# Altium footprint library PCB_Library.PcbLib: 15 footprints
Each footprint in its own frame and in the unit in brackets; x right, y up, seen from the top. Pads: shape width x height; smd on the part's side, far side on the other; paste and mask are expansions set on the pad; w line width, h text height; cw(c..) or ccw(c..) is an arc to the next point about the centre after c.
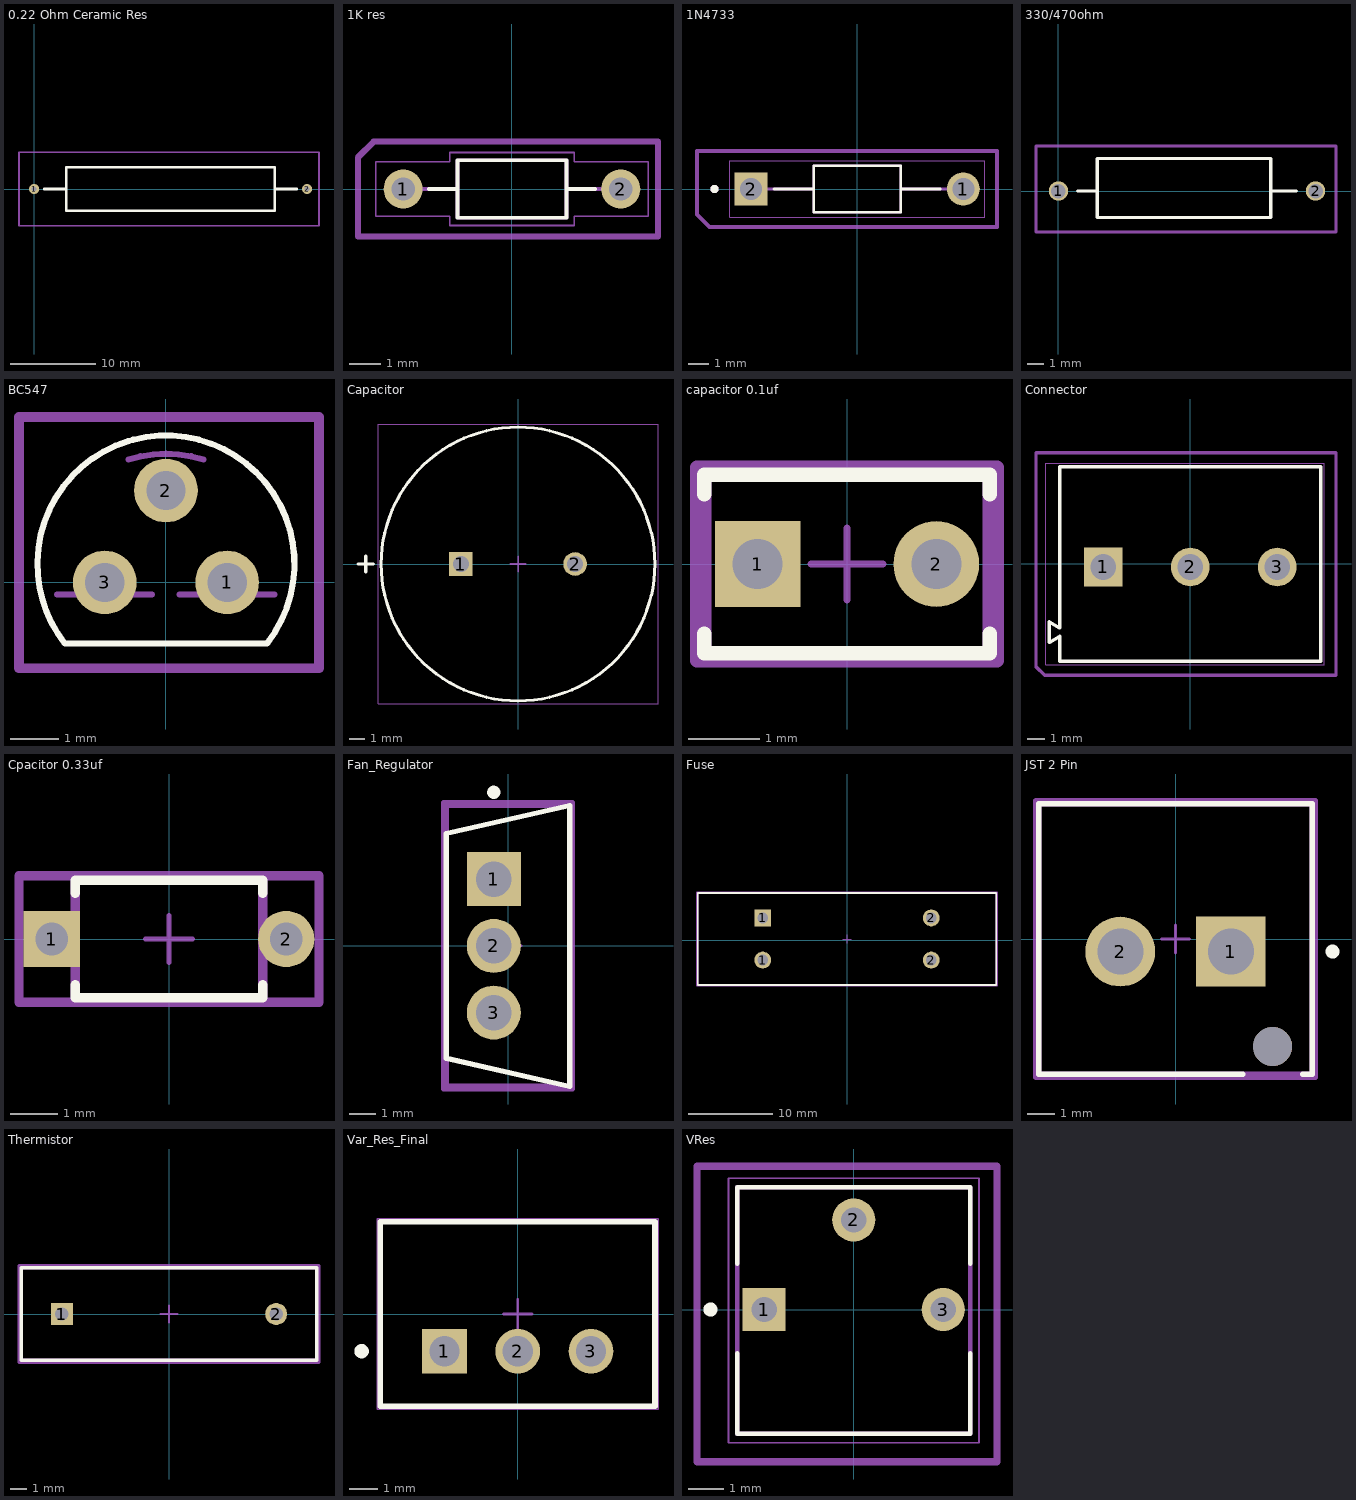
[diagram p0: the footprints below, top view; thin cyan lines are the x and y axes]

## 0.22 Ohm Ceramic Res [mm]
pads (2):
  round 1.2 hole 0.6: 1(0,0) 2(32,0)
Top Overlay:
  lines w0.3: 3.775,-2.54 28.225,-2.54 ; 3.775,-2.54 3.775,0 ; 3.775,-2.54 28.225,-2.54 ; 3.775,-2.54 3.775,0 ; 3.775,0 3.775,2.54 ; 3.775,0 1.2,0 3.775,0 ; 3.775,0 3.775,2.54 ; 3.775,2.54 28.225,2.54 ; 3.775,2.54 28.225,2.54 ; 28.225,-2.54 28.225,2.54 ; 28.225,-2.54 28.225,2.54 ; 28.225,0 30.8,0 28.225,0
Top Assembly:
  lines w0.2: -1.778,-4.318 -1.778,4.318 33.401,4.318 33.401,-4.318 -1.778,-4.318
  text "'.Designator'" at 25.88,5.296 h0.7

## 1K res [mm]
pads (2):
  round 1.258 hole 0.75: 1(-3.5,0) 2(3.5,0)
Top Overlay:
  lines w0.127: -2.667,0 -1.75,0 ; 2.667,0 1.75,0 ; -1.75,0 -1.75,0.925 1.17,0.925 1.75,0.925 1.75,0 ; -1.75,0 -1.75,-0.925 1.17,-0.925 1.75,-0.925 1.75,0
Top Assembly:
  lines w0.2: -4.953,-1.524 4.699,-1.524 4.699,1.524 -4.445,1.524 -4.953,1.016 -4.953,-1.524
  text "'.Designator'" at -3.202,2.111 h0.7
Mechanical 13:
  lines w0.127: -2.925,0 -1.75,0 ; 2.925,0 1.75,0 ; -1.75,0 -1.75,-0.925 1.75,-0.925 1.75,0 ; -1.75,0 -1.75,0.925 1.75,0.925 1.75,0
Mechanical 15:
  lines w0.05: -4.38,-0.88 -2,-0.88 -2,-1.175 2,-1.175 2,-0.88 4.38,-0.88 4.38,0.88 2,0.88 2,1.175 -2,1.175 -2,0.88 -4.38,0.88 -4.38,-0.88

## 1N4733 [mm]
pads (2):
  round 1.65 hole 1.1: 1(5.3,0)
  rect 1.65x1.65 hole 1.1: 2(-5.3,0)
Top Overlay:
  circle w0.2: c-7.125,0 r0.1
  lines w0.127: -4.155,0 -2.175,0 ; 4.155,0 2.175,0 ; -2.175,0 -2.175,1.15 2.175,1.15 2.175,0 ; -2.175,0 -2.175,-1.15 2.175,-1.15 2.175,0
Top Assembly:
  lines w0.2: -8.001,-1.27 -7.366,-1.905 6.985,-1.905 6.985,1.905 -8.001,1.905 -8.001,-1.27
  text "'.Designator'" at 0.734,2.629 h0.7
Mechanical 4:
  circle w0.2: c-7.125,0 r0.1
  circle w0.2: c-7.125,0 r0.1
  lines w0.127: -2.175,-1.15 -2.175,0 ; -2.175,-1.15 2.175,-1.15 ; -2.175,-1.15 -2.175,0 ; -2.175,-1.15 2.175,-1.15 ; -2.175,0 -2.175,1.15 ; -2.175,0 -5.3,0 -2.175,0 ; -2.175,0 -2.175,1.15 ; -2.175,1.15 2.175,1.15 ; -2.175,1.15 2.175,1.15 ; 2.175,-1.15 2.175,0 ; 2.175,-1.15 2.175,0 ; 2.175,0 2.175,1.15 ; 2.175,0 5.3,0 2.175,0 ; 2.175,0 2.175,1.15
Mechanical 16:
  lines w0.05: -6.375,-1.4 -6.375,1.4 6.375,1.4 6.375,-1.4 -6.375,-1.4

## 330/470ohm [mm]
pads (2):
  round 1.2 hole 0.9: 1(0,0) 2(16,0)
Top Overlay:
  lines w0.2: 1.2,0 2.413,0 ; 13.208,0 14.8,0 ; 2.413,0 2.413,2.032 13.208,2.032 13.208,-1.651 2.413,-1.651 2.413,0
Top Assembly:
  lines w0.2: -1.397,-2.54 17.272,-2.54 17.272,2.794 -1.397,2.794 -1.397,-2.54
  text "'.Designator'" at 3.655,3.772 h0.7

## BC547 [mil]
pads (3):
  round 52 hole 32: 1(50,0) 2(0,75) 3(-50,0)
Top Overlay:
  lines w5: -82.74,-49.65 cw(c0,15) -104.6,5.85 cw(c0,15) -30.7,115.41 ; -82.46,-50 82.46,-50 ; -37.38,113.12 cw(c0,15) 82.74,-49.64
Top Assembly:
  lines w7.87: -120,-70 125,-70 125,135 -120,135 -120,-70
  text "'.Designator'" at -141.12,158.52 h27.56
Mechanical 13:
  lines w5: -88.73,-10 -11.27,-10 ; -30.7,100.41 cw(c0,0) 30.7,100.41 ; 11.27,-10 88.73,-10
  text "2" at -25.04,25.04 h50.07
  text "3" at -85.02,0 h50.01
  text "1" at 45.04,0 h50.04

## Capacitor [mm]
pads (2):
  rect 1.55x1.55 hole 1.05: 1(-3.75,0)
  round 1.55 hole 1.05: 2(3.75,0)
Top Overlay:
  circle w0.2: c0,0 r9
  lines w0.2: -10.516,0 -9.5,0 ; -10.008,-0.508 -10.008,-0.254 -10.008,0.254 -10.008,0.508
Mechanical 13:
  circle w0.1: c0,0 r9
Mechanical 15:
  lines w0.05: -9.2,-9.2 9.2,-9.2 9.2,9.2 -9.2,9.2 -9.2,-9.2
  lines w0.1: -0.5,0 0.5,0 ; 0,-0.5 0,0.5
3D body "RBCN-35PX6800MEFC18X35.5.stp": height 37.51, standoff -4, extent -9,-9 9.01,9

## capacitor 0.1uf [mm]
pads (2):
  rect 1.2x1.2 hole 0.7 paste-1000 mask+0: 1(-1.25,0)
  round 1.2 hole 0.7 paste-1000 mask+0: 2(1.25,0)
Top Overlay:
  lines w0.2: -2,-0.975 -2,-1.25 2,-1.25 2,-0.975 ; -2,0.975 -2,1.25 2,1.25 2,0.975
Top Assembly:
  lines w0.2: -2.1,-1.35 2.1,-1.35 2.1,1.35 -2.1,1.35 -2.1,-1.35 ; -2,-1.25 2,-1.25 2,1.25 -2,1.25 -2,-1.25
  text ".Designator" at 0.254,1.712 h1
Top Component Center:
  lines w0.1: -0.5,0 0.5,0 ; 0,-0.5 0,0.5
Top Courtyard:
  lines w0.2: -2.1,-1.35 2.1,-1.35 2.1,1.35 -2.1,1.35 -2.1,-1.35
3D body "Cap_Murata_RCER71E684K1DBH03A_eec.STEP": height 0.25, standoff 0, extent -2.1,-1.35 2.1,1.35

## Connector [mm]
pads (3):
  rect 2.25x2.25 hole 1.5: 1(-5.08,-0.175)
  round 2.25 hole 1.5: 2(0,-0.175) 3(5.08,-0.175)
Top Overlay:
  lines w0.2: -7.621,-4.223 -8.22,-4.575 -8.22,-3.375 -7.621,-3.727 ; -7.62,-4.225 -7.62,-5.675 7.62,-5.675 7.62,5.675 -7.62,5.675 -7.62,-3.726
Top Assembly:
  lines w0.2: -9,-6 -9,6.5 8.5,6.5 8.5,-5.5 8.5,-6.5 -8.5,-6.5 -9,-6
  text "'.Designator'" at -0.9,7.333 h0.7
Mechanical 13:
  lines w0.1: -7.621,-4.223 -8.22,-4.575 -8.22,-3.375 -7.621,-3.727 ; -7.62,-4.225 -7.62,-5.675 7.62,-5.675 7.62,5.675 -7.62,5.675 -7.62,-3.726
Mechanical 15:
  lines w0.05: -0.5,0 0.5,0 ; 0,-0.5 0,0.5 ; -8.42,-5.875 7.82,-5.875 7.82,5.875 -8.42,5.875 -8.42,-5.875
3D body "691236510003.stp": height 18.1, standoff -3.9, extent -8.22,-5.675 7.62,5.675

## Cpacitor 0.33uf [mm]
pads (2):
  rect 1.2x1.2 hole 0.7 paste-1000 mask+0: 1(-2.5,0)
  round 1.2 hole 0.7 paste-1000 mask+0: 2(2.5,0)
Top Overlay:
  lines w0.2: -2,-0.975 -2,-1.25 2,-1.25 2,-0.975 ; -2,0.975 -2,1.25 2,1.25 2,0.975
Top Assembly:
  lines w0.2: -3.2,-1.35 -3.2,1.35 3.2,1.35 3.2,-1.35 -3.2,-1.35 ; -2,-1.25 -2,1.25 2,1.25 2,-1.25 -2,-1.25
  text ".Designator" at 0.127,1.839 h1
Top Component Center:
  lines w0.1: -0.5,0 0.5,0 ; 0,-0.5 0,0.5
Top Courtyard:
  lines w0.2: -3.2,-1.35 -3.2,1.35 3.2,1.35 3.2,-1.35 -3.2,-1.35
3D body "Cap_Murata_RCER71E474K1K1H03B_eec.STEP": height 0.25, standoff 0, extent -3.2,-1.35 3.2,1.35

## Fan_Regulator [mm]
pads (3):
  rect 2.05x2.05 hole 1.35 paste-1000 mask+0: 1(-0.54,2.535)
  round 2.05 hole 1.35 paste-1000 mask+0: 2(-0.54,0) 3(-0.54,-2.535)
Top Overlay:
  circle w0.25: c-0.54,5.835 r0.125
  lines w0.2: 2.35,-5.335 -2.35,-4.268 -2.35,4.268 2.35,5.335 ; 2.35,-5.285 2.35,5.285
Top Assembly:
  lines w0.2: -2.45,-5.435 2.45,-5.435 2.45,5.435 -2.45,5.435 -2.45,-5.435 ; -2.35,-5.335 2.35,-5.335 2.35,5.335 -2.35,5.335 -2.35,-5.335
  text ".Designator" at 0,-0.001 h1
Top Component Center:
  lines w0.1: -0.5,0 0.5,0 ; 0,-0.5 0,0.5
Top Courtyard:
  lines w0.2: -2.45,-5.435 2.45,-5.435 2.45,5.435 -2.45,5.435 -2.45,-5.435
3D body "IC_ON_Semiconductor_LM7812CT_eec.STEP": height 0.25, standoff 0, extent -2.45,-5.435 2.45,5.435

## Fuse [mm]
pads (4):
  round 2 hole 1.3 paste-1000 mask+0: 1(-10,-2.373) 2(10,-2.373) 2(10,2.627)
  rect 2x2 hole 1.3 paste-1000 mask+0: 1(-10,2.627)
Top Overlay:
  lines w0.2: -17.7,-5.323 17.7,-5.323 17.7,5.577 -17.7,5.577 -17.7,-5.323
Top Assembly:
  lines w0.2: -17.8,-5.423 17.8,-5.423 17.8,5.677 -17.8,5.677 -17.8,-5.423 ; -17.7,-5.323 17.7,-5.323 17.7,5.577 -17.7,5.577 -17.7,-5.323
  text ".Designator" at 0.254,7.554 h1
Top Component Center:
  lines w0.1: -0.5,0.127 0.5,0.127 ; 0,-0.373 0,0.627
Top Courtyard:
  lines w0.2: -17.8,-5.423 17.8,-5.423 17.8,5.677 -17.8,5.677 -17.8,-5.423
3D body "Fuse_Schurter_0031_8231_eec.STEP": height 0.25, standoff 0, extent -17.8,-5.423 17.8,5.677

## JST 2 Pin [mm]
pads (3):
  rect 2.5x2.5 hole 1.65 paste-1000 mask+0: 1(1.98,-0.45)
  round 2.5 hole 1.65 paste-1000 mask+0: 2(-1.98,-0.45)
  round 1.4 hole 1.4 unplated paste-1000 mask+0: ""(3.48,-3.85)
Top Overlay:
  circle w0.25: c5.625,-0.45 r0.125
  lines w0.2: 2.405,-4.85 -4.9,-4.85 -4.9,4.85 4.9,4.85 4.9,-4.85 4.555,-4.85
Top Assembly:
  lines w0.2: -5,-4.95 -5,4.95 5,4.95 5,-4.95 -5,-4.95 ; -4.9,-4.85 -4.9,4.85 4.9,4.85 4.9,-4.85 -4.9,-4.85
  text ".Designator" at 0.635,5.776 h1
Top Component Center:
  lines w0.1: -0.5,0 0.5,0 ; 0,-0.5 0,0.5
Top Courtyard:
  lines w0.2: -5,-4.95 -5,4.95 5,4.95 5,-4.95 -5,-4.95
3D body "Conn_JST_B2P-VH-FB-B_LF_SN_eec.STEP": height 0.25, standoff 0, extent -5,-4.95 5,4.95

## Thermistor [mm]
pads (2):
  rect 1.3x1.3 hole 0.8 paste-1000 mask+0: 1(-6.35,0)
  round 1.3 hole 0.8 paste-1000 mask+0: 2(6.35,0)
Top Overlay:
  lines w0.2: -8.763,-2.75 -8.763,2.75 8.763,2.75 8.763,-2.75 -8.763,-2.75
Top Assembly:
  lines w0.2: -8.89,-2.85 -8.89,2.85 8.89,2.85 8.89,-2.85 -8.89,-2.85 ; -8.89,-2.75 -8.89,2.75 8.89,2.75 8.89,-2.75 -8.89,-2.75
  text ".Designator" at -1.778,3.617 h1
Top Component Center:
  lines w0.1: -0.5,0 0.5,0 ; 0,-0.5 0,0.5
Top Courtyard:
  lines w0.2: -8.89,-2.85 -8.89,2.85 8.89,2.85 8.89,-2.85 -8.89,-2.85

## Var_Res_Final [mm]
pads (3):
  rect 1.55x1.55 hole 1.05: 1(-2.54,-1.29)
  round 1.55 hole 1.05: 2(0,-1.29) 3(2.54,-1.29)
Top Overlay:
  circle w0.25: c-5.415,-1.29 r0.125
  lines w0.2: -4.765,-3.2 4.765,-3.2 4.765,3.2 -4.765,3.2 -4.765,-3.2
Mechanical 13:
  lines w0.1: -4.765,-3.2 -4.765,3.2 4.765,3.2 4.765,-3.2 -4.765,-3.2
Mechanical 15:
  lines w0.05: -4.865,-3.3 4.865,-3.3 4.865,3.3 -4.865,3.3 -4.865,-3.3
  lines w0.1: -0.5,0 0.5,0 ; 0,-0.5 0,0.5
3D body: height 11.55, standoff 10.03, extent -4.765,0.91 -2.476,3.2
3D body: height 10.03, standoff 0.38, extent -4.765,-3.2 4.765,3.2

## VRes [mm]
pads (3):
  rect 1.222x1.222 hole 0.714: 1(-2.54,0)
  round 1.222 hole 0.714: 2(0,2.54) 3(2.54,0)
Top Overlay:
  circle w0.2: c-4.064,0 r0.1
  lines w0.127: -3.3,-3.53 3.3,-3.53 ; -3.3,-3.52 -3.3,-1.235 ; -3.3,1.305 -3.3,3.47 3.3,3.47 3.3,1.305 ; 3.3,-3.52 3.3,-1.235
Top Assembly:
  lines w0.2: -4.445,-4.318 -4.445,4.064 4.064,4.064 4.064,-4.318 -4.445,-4.318
  text "'.Designator'" at -3.965,4.661 h0.7
Mechanical 13:
  lines w0.127: -3.3,-3.53 3.3,-3.53 3.3,3.47 -3.3,3.47 -3.3,-3.53
Mechanical 15:
  lines w0.05: -3.55,-3.78 3.55,-3.78 3.55,3.72 -3.55,3.72 -3.55,-3.78
3D body "step_temp.STEP": height 4.88, standoff -5.84, extent -3.3,-3.495 3.3,3.495